# EAGLE library part SIG60 (library LARS_409_MK)
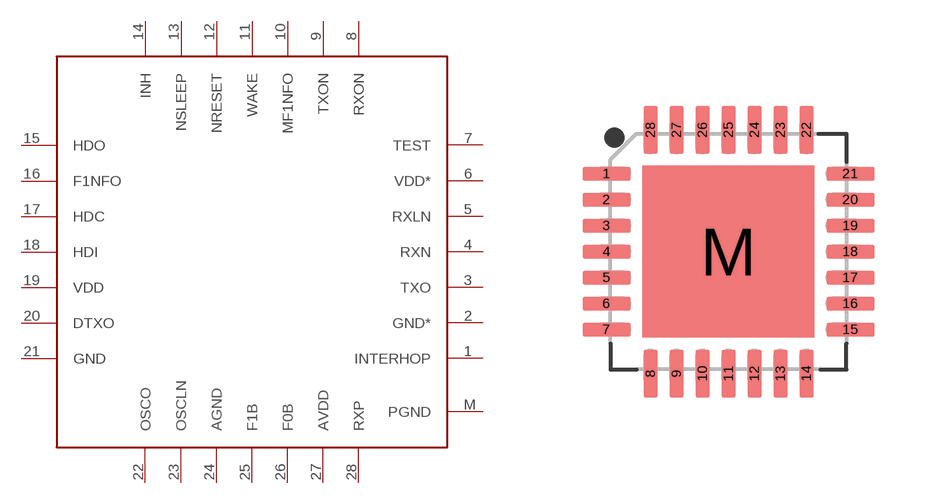
[diagram p6: symbol with the pads of QFN28; footprint QFN28]

Designator prefix U

## SIG60  [QFN28]
1  INTERHOP
2  GND*
3  TXO
4  RXN
5  RXLN
6  VDD*
7  TEST
8  RXON
9  TXON
10  MF1NFO
11  WAKE
12  NRESET
13  NSLEEP
14  INH
15  HDO
16  F1NFO
17  HDC
18  HDI
19  VDD
20  DTXO
21  GND
22  OSCO
23  OSCLN
24  AGND
25  F1B
26  F0B
27  AVDD
28  RXP
M  PGND

## Footprint QFN28 (pad centres in mm)
smd 1.2 x 0.35: 1 -3.05,1.95; 2 -3.05,1.3; 3 -3.05,0.65; 4 -3.05,0; 5 -3.05,-0.65; 6 -3.05,-1.3; 7 -3.05,-1.95; 15 3.05,-1.95; 16 3.05,-1.3; 17 3.05,-0.65; 18 3.05,0; 19 3.05,0.65; 20 3.05,1.3; 21 3.05,1.95
smd 0.35 x 1.2: 8 -1.95,-3.05; 9 -1.3,-3.05; 10 -0.65,-3.05; 11 0,-3.05; 12 0.65,-3.05; 13 1.3,-3.05; 14 1.95,-3.05; 22 1.95,3.05; 23 1.3,3.05; 24 0.65,3.05; 25 0,3.05; 26 -0.65,3.05; 27 -1.3,3.05; 28 -1.95,3.05
smd 4.3 x 4.3: M 0,0